# Altium footprint library lms324adtPcbLib.PcbLib: 1 footprints
Each footprint in its own frame and in the unit in brackets; x right, y up, seen from the top. Pads: shape width x height; smd on the part's side, far side on the other; paste and mask are expansions set on the pad; w line width, h text height; cw(c..) or ccw(c..) is an arc to the next point about the centre after c.
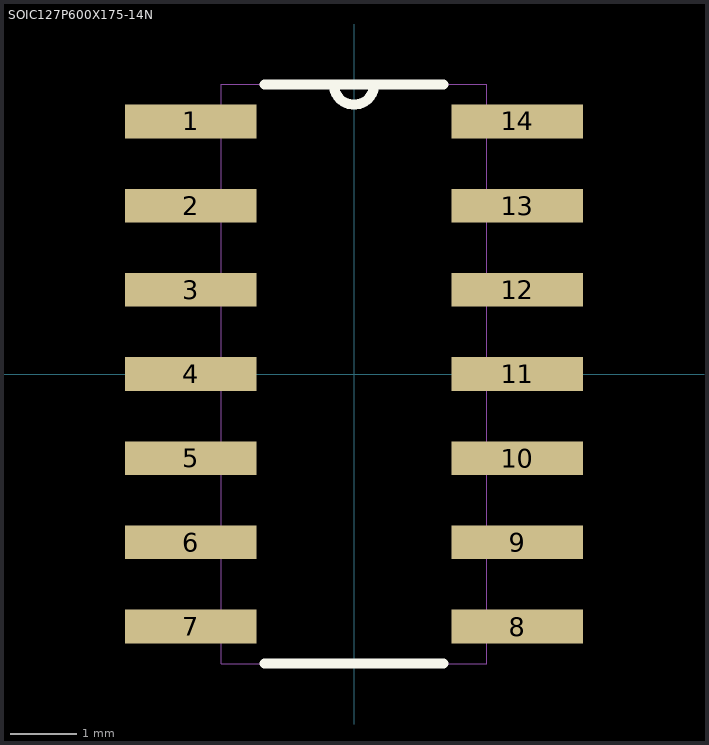
[diagram p0: the footprint, top view; thin cyan lines are the x and y axes]

## SOIC127P600X175-14N [mil]
pads (14):
  rect 78x20 smd: 1(-97,150) 2(-97,100) 3(-97,50) 4(-97,0) 5(-97,-50) 6(-97,-100) 7(-97,-150) 8(97,-150) 9(97,-100) 10(97,-50) 11(97,0) 12(97,50) 13(97,100) 14(97,150)
Top Overlay:
  lines w6: -53,-172 53,-172 ; -53,172 -12,172 ; 53,172 12,172 ; -12,172 ccw(c0,172) 12,172 ; -12,172 12,172
Mechanical 13:
  lines w0: -12,172 ccw(c0,172) 12,172 ; -12,172 -79,172 -79,-172 79,-172 79,172 12,172 ; -12,172 12,172 ; -122,-159 -79,-159 -79,-141 -122,-141 -122,-159 ; -122,-109 -79,-109 -79,-91 -122,-91 -122,-109 ; -122,-59 -79,-59 -79,-41 -122,-41 -122,-59 ; -122,-9 -79,-9 -79,9 -122,9 -122,-9 ; -122,41 -79,41 -79,59 -122,59 -122,41 ; -122,91 -79,91 -79,109 -122,109 -122,91 ; -122,141 -79,141 -79,159 -122,159 -122,141 ; 79,-159 122,-159 122,-141 79,-141 79,-159 ; 79,-109 122,-109 122,-91 79,-91 79,-109 ; 79,-59 122,-59 122,-41 79,-41 79,-59 ; 79,-9 122,-9 122,9 79,9 79,-9 ; 79,41 122,41 122,59 79,59 79,41 ; 79,91 122,91 122,109 79,109 79,91 ; 79,141 122,141 122,159 79,159 79,141
3D body "lms324adt.STEP": height 78.46, standoff 0.5, extent -117.05,-170.05 119.17,170.5